# Altium integrated library ST Logic Switch.IntLib: 27 symbols
Pins are listed as number, name and electrical type; pins without a type are passive.

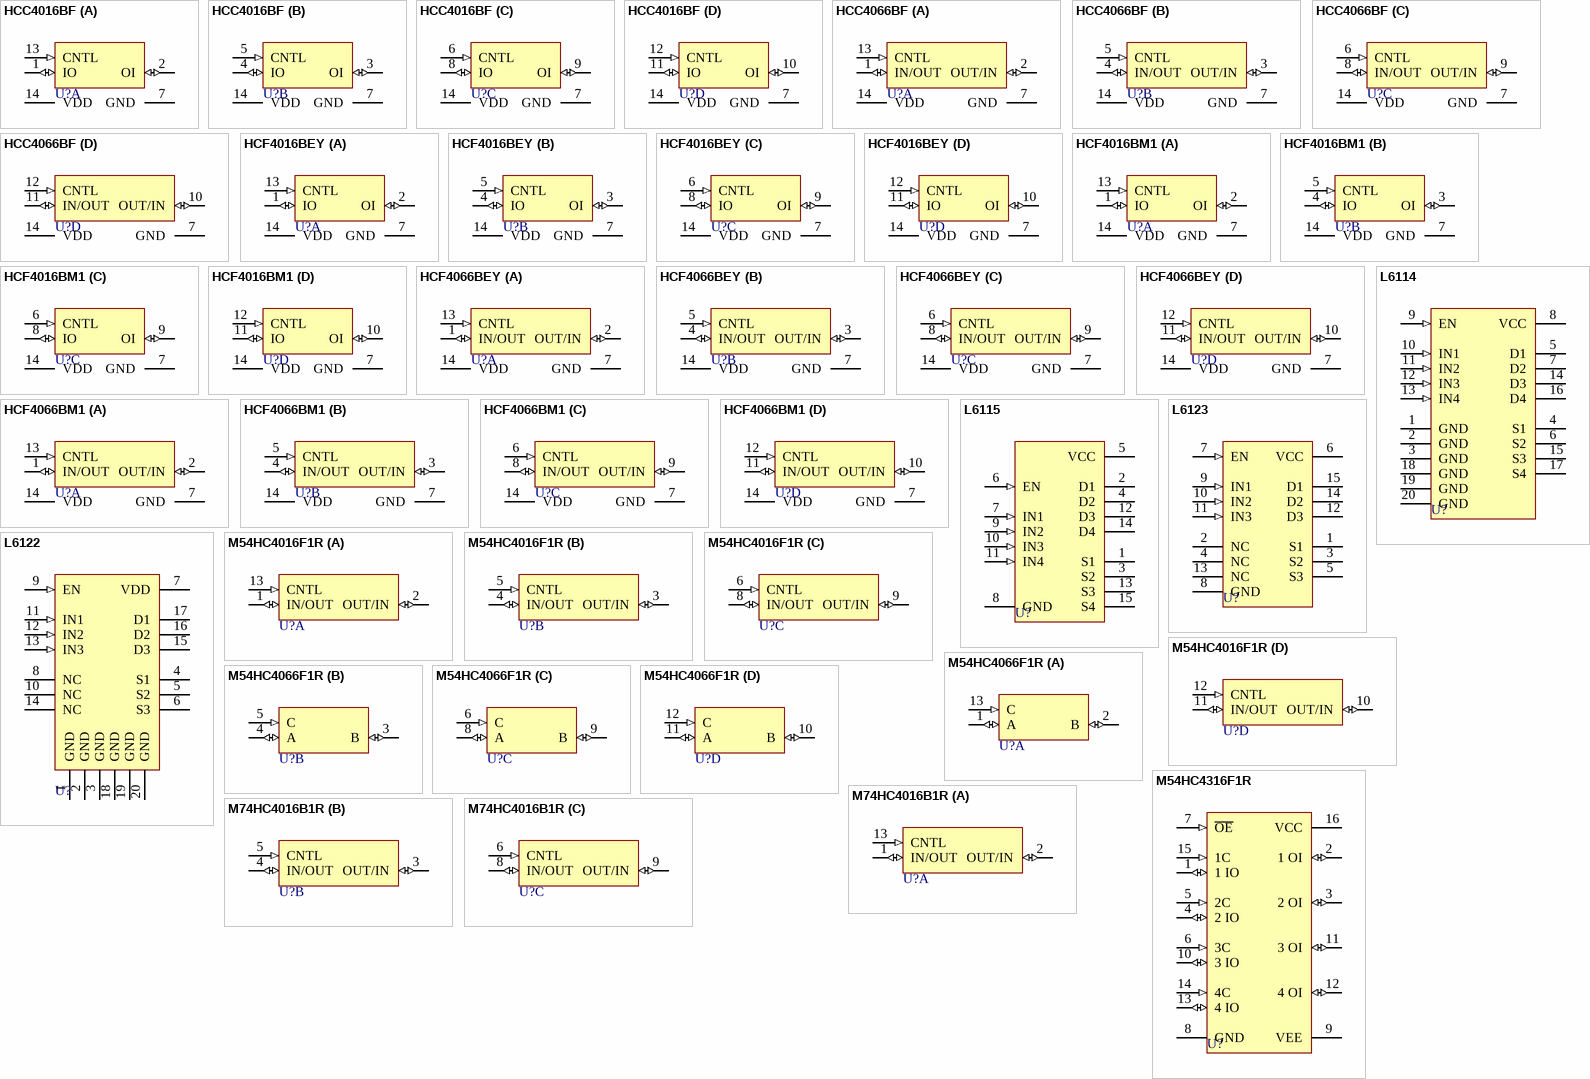
[diagram p0: symbols HCC4016BF to M74HC4016B1R]

## HCC4016BF
designator U?
Quad Bilateral Switch; Published: 8-Jun-2000; LatestRevisionDate: 04-Mar-2005; LatestRevisionNote: Stylized 3D Model Added.; DatasheetVersion: Jun-1989; PackageReference: CDIP14; Publisher: Altium Limited; PackageDescription: DIP; 14 Leads; Row Spacing 7.62 mm; Pitch 2.54 mm; ComponentLink1Description: Manufacturer Link; ComponentLink1URL: http://www.st.com/
footprint CDIP14 (DIP; 14 Leads; Row Spacing 7.62 mm; Pitch 2.54 mm)
3D model CDIP14 (DIP; 14 Leads; Row Spacing 7.62 mm; Pitch 2.54 mm)
pins on every part: 7 GND (power) hidden to GND, 14 VDD (power) hidden to VDD
part A pins: 1 IO (io), 2 OI (io), 13 CNTL (in)
part B pins: 3 OI (io), 4 IO (io), 5 CNTL (in)
part C pins: 6 CNTL (in), 8 IO (io), 9 OI (io)
part D pins: 10 OI (io), 11 IO (io), 12 CNTL (in)

## HCC4066BF
designator U?
Quad Bilateral Switch For Transmission or Multiplexing of Analog or Digital Signals; Published: 8-Jun-2000; LatestRevisionDate: 04-Mar-2005; LatestRevisionNote: Stylized 3D Model Added.; DatasheetVersion: Jun-1989; PackageReference: CDIP14; Publisher: Altium Limited; PackageDescription: DIP; 14 Leads; Row Spacing 7.62 mm; Pitch 2.54 mm; ComponentLink1Description: Manufacturer Link; ComponentLink1URL: http://www.st.com/
footprint CDIP14 (DIP; 14 Leads; Row Spacing 7.62 mm; Pitch 2.54 mm)
3D model CDIP14 (DIP; 14 Leads; Row Spacing 7.62 mm; Pitch 2.54 mm)
pins on every part: 7 GND (power) hidden to GND, 14 VDD (power) hidden to VDD
part A pins: 1 IN/OUT (io), 2 OUT/IN (io), 13 CNTL (in)
part B pins: 3 OUT/IN (io), 4 IN/OUT (io), 5 CNTL (in)
part C pins: 6 CNTL (in), 8 IN/OUT (io), 9 OUT/IN (io)
part D pins: 10 OUT/IN (io), 11 IN/OUT (io), 12 CNTL (in)

## HCF4016BEY
designator U?
Quad Bilateral Switch; Published: 8-Jun-2000; LatestRevisionDate: 04-Mar-2005; LatestRevisionNote: Stylized 3D Model Added.; DatasheetVersion: Jun-1989; PackageVersion: Jan-1997; PackageReference: DIP14; Publisher: Altium Limited; PackageDescription: DIP; 14 Leads; Row Spacing 7.62 mm; Pitch 2.54 mm; ComponentLink1Description: Manufacturer Link; ComponentLink1URL: http://www.st.com/; ComponentLink2Description: Datasheet; ComponentLink2URL: http://www.st.com/stonline/products/literature/ds/2027/hcf4016.pdf
footprint DIP14 (DIP; 14 Leads; Row Spacing 7.62 mm; Pitch 2.54 mm)
3D model CDIP14 (DIP; 14 Leads; Row Spacing 7.62 mm; Pitch 2.54 mm)
pins on every part: 7 GND (power) hidden to GND, 14 VDD (power) hidden to VDD
part A pins: 1 IO (io), 2 OI (io), 13 CNTL (in)
part B pins: 3 OI (io), 4 IO (io), 5 CNTL (in)
part C pins: 6 CNTL (in), 8 IO (io), 9 OI (io)
part D pins: 10 OI (io), 11 IO (io), 12 CNTL (in)

## HCF4016BM1
designator U?
Quad Bilateral Switch; Published: 8-Jun-2000; LatestRevisionDate: 13-Apr-2006; LatestRevisionNote: IPC-7351 Footprint Added.; DatasheetVersion: Jun-1989; PackageVersion: Sep-1998; PackageReference: SO14; Publisher: Altium Limited; PackageDescription: 14-Pin Small Outline Integrated Circuit 1.27 mm Pitch; Code_IPC: SOIC127P600-14; ComponentLink1Description: Manufacturer Link; ComponentLink1URL: http://www.st.com/; ComponentLink2Description: Datasheet; ComponentLink2URL: http://www.st.com/stonline/products/literature/ds/2027/hcf4016.pdf
footprint SO14_N (SOIC, 14-Leads, Body 8.7x3.9mm, Pitch 1.27mm, IPC Medium Density)
footprint SO14_L (SOIC, 14-Leads, Body 8.7x3.9mm, Pitch 1.27mm, IPC High Density)
footprint SO14_M (SOIC, 14-Leads, Body 8.7x3.9mm, Pitch 1.27mm, IPC Low Density)
3D model SO14 (14-Pin Small Outline Integrated Circuit 1.27 mm Pitch)
pins on every part: 7 GND (power) hidden to GND, 14 VDD (power) hidden to VDD
part A pins: 1 IO (io), 2 OI (io), 13 CNTL (in)
part B pins: 3 OI (io), 4 IO (io), 5 CNTL (in)
part C pins: 6 CNTL (in), 8 IO (io), 9 OI (io)
part D pins: 10 OI (io), 11 IO (io), 12 CNTL (in)

## HCF4066BEY
designator U?
Quad Bilateral Switch For Transmission or Multiplexing of Analog or Digital Signals; Published: 8-Jun-2000; LatestRevisionDate: 04-Mar-2005; LatestRevisionNote: Stylized 3D Model Added.; DatasheetVersion: Jun-1989; PackageVersion: Jan-1997; PackageReference: DIP14; Publisher: Altium Limited; PackageDescription: DIP; 14 Leads; Row Spacing 7.62 mm; Pitch 2.54 mm; ComponentLink1Description: Manufacturer Link; ComponentLink1URL: http://www.st.com/; ComponentLink2Description: Datasheet; ComponentLink2URL: http://www.st.com/stonline/products/literature/ds/2057/hcf4066.pdf
footprint DIP14 (DIP; 14 Leads; Row Spacing 7.62 mm; Pitch 2.54 mm)
3D model CDIP14 (DIP; 14 Leads; Row Spacing 7.62 mm; Pitch 2.54 mm)
pins on every part: 7 GND (power) hidden to GND, 14 VDD (power) hidden to VDD
part A pins: 1 IN/OUT (io), 2 OUT/IN (io), 13 CNTL (in)
part B pins: 3 OUT/IN (io), 4 IN/OUT (io), 5 CNTL (in)
part C pins: 6 CNTL (in), 8 IN/OUT (io), 9 OUT/IN (io)
part D pins: 10 OUT/IN (io), 11 IN/OUT (io), 12 CNTL (in)

## HCF4066BM1
designator U?
Quad Bilateral Switch For Transmission or Multiplexing of Analog or Digital Signals; Published: 8-Jun-2000; LatestRevisionDate: 13-Apr-2006; LatestRevisionNote: IPC-7351 Footprint Added.; DatasheetVersion: Jun-1989; PackageVersion: Sep-1998; PackageReference: SO14; Publisher: Altium Limited; PackageDescription: 14-Pin Small Outline Integrated Circuit 1.27 mm Pitch; Code_IPC: SOIC127P600-14; ComponentLink1Description: Manufacturer Link; ComponentLink1URL: http://www.st.com/; ComponentLink2Description: Datasheet; ComponentLink2URL: http://www.st.com/stonline/products/literature/ds/2057/hcf4066.pdf
footprint SO14_N (SOIC, 14-Leads, Body 8.7x3.9mm, Pitch 1.27mm, IPC Medium Density)
footprint SO14_L (SOIC, 14-Leads, Body 8.7x3.9mm, Pitch 1.27mm, IPC High Density)
footprint SO14_M (SOIC, 14-Leads, Body 8.7x3.9mm, Pitch 1.27mm, IPC Low Density)
3D model SO14 (14-Pin Small Outline Integrated Circuit 1.27 mm Pitch)
pins on every part: 7 GND (power) hidden to GND, 14 VDD (power) hidden to VDD
part A pins: 1 IN/OUT (io), 2 OUT/IN (io), 13 CNTL (in)
part B pins: 3 OUT/IN (io), 4 IN/OUT (io), 5 CNTL (in)
part C pins: 6 CNTL (in), 8 IN/OUT (io), 9 OUT/IN (io)
part D pins: 10 OUT/IN (io), 11 IN/OUT (io), 12 CNTL (in)

## L6114
designator U?
Quad 100V, DMOS Switch; Published: 29-Sep-2000; LatestRevisionDate: 04-Mar-2005; LatestRevisionNote: Stylized 3D Model Added.; DatasheetVersion: Apr-1993; PackageVersion: Mar-1995; PackageReference: PwrDIP20; Publisher: Altium Limited; PackageDescription: DIP; 20 Leads; Row Spacing 7.62 mm; Pitch 2.54 mm; ComponentLink1Description: Manufacturer Link; ComponentLink1URL: http://www.st.com/
footprint PwrDIP20 (DIP; 20 Leads; Row Spacing 7.62 mm; Pitch 2.54 mm)
3D model PwrDIP20 (DIP; 20 Leads; Row Spacing 7.62 mm; Pitch 2.54 mm)
pins: 1 GND (power), 2 GND (power), 3 GND (power), 4 S1, 5 D1, 6 S2, 7 D2, 8 VCC (power), 9 EN (in), 10 IN1 (in), 11 IN2 (in), 12 IN3 (in), 13 IN4 (in), 14 D3, 15 S3, 16 D4, 17 S4, 18 GND (power), 19 GND (power), 20 GND (power)

## L6115
designator U?
Quad 100V, DMOS Switch; Published: 29-Sep-2000; LatestRevisionDate: 17-Jul-2002; LatestRevisionNote: Re-released for DXP Platform.; DatasheetVersion: Apr-1993; PackageReference: MULTIWATT15; Publisher: Altium Limited; PackageDescription: TO, Thru-Hole, Vertical, Heatsink Mounted; 15 Bent Staggered Leads; Pitch 1.27 mm; ComponentLink1Description: Manufacturer Link; ComponentLink1URL: http://www.st.com/
footprint Multiwatt15 (TO, Thru-Hole, Vertical, Heatsink Mounted; 15 Bent Staggered Leads; Pitch 1.27 mm)
pins: 1 S1, 2 D1, 3 S2, 4 D2, 5 VCC (power), 6 EN (in), 7 IN1 (in), 8 GND (power), 9 IN2 (in), 10 IN3 (in), 11 IN4 (in), 12 D3, 13 S3, 14 D4, 15 S4

## L6122
designator U?
100V DMOS Switch; Published: 29-Sep-2000; LatestRevisionDate: 04-Mar-2005; LatestRevisionNote: Stylized 3D Model Added.; DatasheetVersion: Apr-1993; PackageVersion: Mar-1995; PackageReference: PwrDIP20; Publisher: Altium Limited; PackageDescription: DIP; 20 Leads; Row Spacing 7.62 mm; Pitch 2.54 mm; ComponentLink1Description: Manufacturer Link; ComponentLink1URL: http://www.st.com/
footprint PwrDIP20 (DIP; 20 Leads; Row Spacing 7.62 mm; Pitch 2.54 mm)
3D model PwrDIP20 (DIP; 20 Leads; Row Spacing 7.62 mm; Pitch 2.54 mm)
pins: 1 GND (power), 2 GND (power), 3 GND (power), 4 S1, 5 S2, 6 S3, 7 VDD (power), 8 NC, 9 EN (in), 10 NC, 11 IN1 (in), 12 IN2 (in), 13 IN3 (in), 14 NC, 15 D3, 16 D2, 17 D1, 18 GND (power), 19 GND (power), 20 GND (power)

## L6123
designator U?
100V DMOS Switch; Published: 29-Sep-2000; LatestRevisionDate: 17-Jul-2002; LatestRevisionNote: Re-released for DXP Platform.; DatasheetVersion: Apr-1993; PackageReference: MULTIWATT15; Publisher: Altium Limited; PackageDescription: TO, Thru-Hole, Vertical, Heatsink Mounted; 15 Bent Staggered Leads; Pitch 1.27 mm; ComponentLink1Description: Manufacturer Link; ComponentLink1URL: http://www.st.com/
footprint Multiwatt15 (TO, Thru-Hole, Vertical, Heatsink Mounted; 15 Bent Staggered Leads; Pitch 1.27 mm)
pins: 1 S1, 2 NC, 3 S2, 4 NC, 5 S3, 6 VCC (power), 7 EN (in), 8 GND (power), 9 IN1 (in), 10 IN2 (in), 11 IN3 (in), 12 D3, 13 NC, 14 D2, 15 D1

## M54HC4016F1R
designator U?
Quad Bilateral Switch; Published: 8-Jun-2000; LatestRevisionDate: 04-Mar-2005; LatestRevisionNote: Stylized 3D Model Added.; DatasheetVersion: Oct-1993; PackageReference: CDIP14; Publisher: Altium Limited; PackageDescription: DIP; 14 Leads; Row Spacing 7.62 mm; Pitch 2.54 mm; ComponentLink1Description: Manufacturer Link; ComponentLink1URL: http://www.st.com/
footprint CDIP14 (DIP; 14 Leads; Row Spacing 7.62 mm; Pitch 2.54 mm)
3D model CDIP14 (DIP; 14 Leads; Row Spacing 7.62 mm; Pitch 2.54 mm)
signal-integrity model M54HC4016F1R
pins on every part: 7 GND (power) hidden to GND, 14 VDD (power) hidden to VDD
part A pins: 1 IN/OUT (io), 2 OUT/IN (io), 13 CNTL (in)
part B pins: 3 OUT/IN (io), 4 IN/OUT (io), 5 CNTL (in)
part C pins: 6 CNTL (in), 8 IN/OUT (io), 9 OUT/IN (io)
part D pins: 10 OUT/IN (io), 11 IN/OUT (io), 12 CNTL (in)

## M54HC4066F1R
designator U?
Quad Bilateral Switch; Published: 8-Jun-2000; LatestRevisionDate: 04-Mar-2005; LatestRevisionNote: Stylized 3D Model Added.; DatasheetVersion: Oct-1993; PackageReference: CDIP14; Publisher: Altium Limited; PackageDescription: DIP; 14 Leads; Row Spacing 7.62 mm; Pitch 2.54 mm; ComponentLink1Description: Manufacturer Link; ComponentLink1URL: http://www.st.com/
footprint CDIP14 (DIP; 14 Leads; Row Spacing 7.62 mm; Pitch 2.54 mm)
3D model CDIP14 (DIP; 14 Leads; Row Spacing 7.62 mm; Pitch 2.54 mm)
signal-integrity model M54HC4066F1R
pins on every part: 7 GND (power) hidden to GND, 14 VDD (power) hidden to VDD
part A pins: 1 A (io), 2 B (io), 13 C (in)
part B pins: 3 B (io), 4 A (io), 5 C (in)
part C pins: 6 C (in), 8 A (io), 9 B (io)
part D pins: 10 B (io), 11 A (io), 12 C (in)

## M54HC4316F1R
designator U?
Quad Bilateral Switch; Published: 8-Jun-2000; LatestRevisionDate: 04-Mar-2005; LatestRevisionNote: Stylized 3D Model Added.; DatasheetVersion: Oct-1993; PackageVersion: Apr-1996; PackageReference: DIP16; Publisher: Altium Limited; PackageDescription: DIP; 16 Leads; Row Spacing 7.62 mm; Pitch 2.54 mm; ComponentLink1Description: Manufacturer Link; ComponentLink1URL: http://www.st.com/
footprint DIP16 (DIP; 16 Leads; Row Spacing 7.62 mm; Pitch 2.54 mm)
3D model DIP16 (DIP; 16 Leads; Row Spacing 7.62 mm; Pitch 2.54 mm)
signal-integrity model M54HC4316F1R
pins: 1 1 IO (io), 2 1 OI (io), 3 2 OI (io), 4 2 IO (io), 5 2C (in), 6 3C (in), 7 ~{OE} (in), 8 GND (power), 9 VEE (power), 10 3 IO (io), 11 3 OI (io), 12 4 OI (io), 13 4 IO (io), 14 4C (in), 15 1C (in), 16 VCC (power)

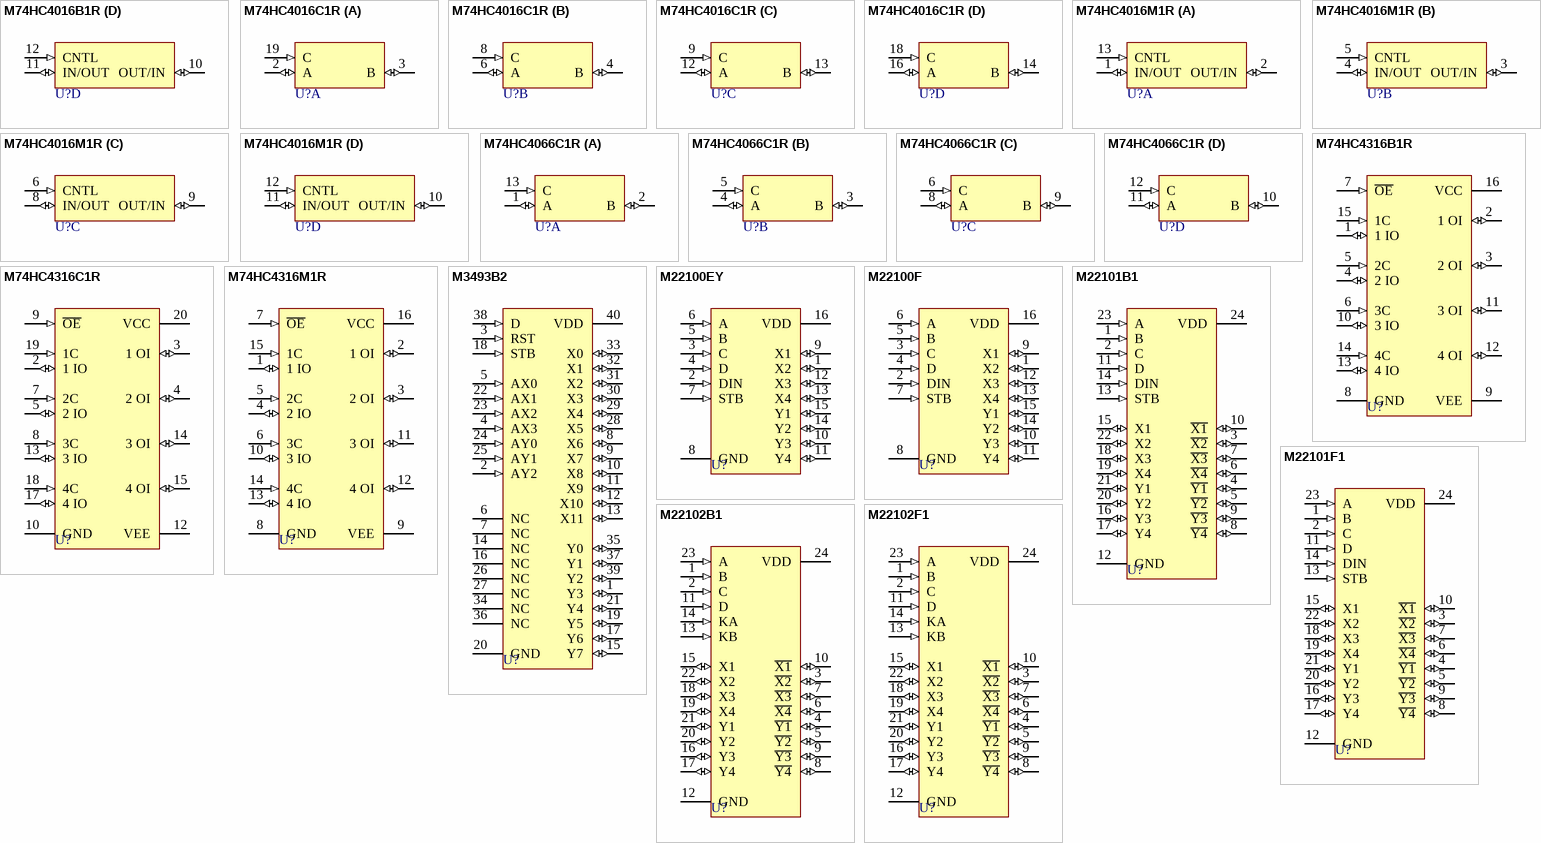
[diagram p1: symbols M74HC4016B1R to M22102F1]

## M74HC4016B1R
designator U?
Quad Bilateral Switch; Published: 8-Jun-2000; LatestRevisionDate: 04-Mar-2005; LatestRevisionNote: Stylized 3D Model Added.; DatasheetVersion: Oct-1993; PackageVersion: Jan-1997; PackageReference: DIP14; Publisher: Altium Limited; PackageDescription: DIP; 14 Leads; Row Spacing 7.62 mm; Pitch 2.54 mm; ComponentLink1Description: Manufacturer Link; ComponentLink1URL: http://www.st.com/; ComponentLink2Description: Datasheet; ComponentLink2URL: http://www.st.com/stonline/products/literature/ds/1959/m74hc4016.pdf
footprint DIP14 (DIP; 14 Leads; Row Spacing 7.62 mm; Pitch 2.54 mm)
3D model CDIP14 (DIP; 14 Leads; Row Spacing 7.62 mm; Pitch 2.54 mm)
signal-integrity model M74HC4016B1R
pins on every part: 7 GND (power) hidden to GND, 14 VDD (power) hidden to VDD
part A pins: 1 IN/OUT (io), 2 OUT/IN (io), 13 CNTL (in)
part B pins: 3 OUT/IN (io), 4 IN/OUT (io), 5 CNTL (in)
part C pins: 6 CNTL (in), 8 IN/OUT (io), 9 OUT/IN (io)
part D pins: 10 OUT/IN (io), 11 IN/OUT (io), 12 CNTL (in)

## M74HC4016C1R
designator U?
Quad Bilateral Switch; Note: Pins 1, 5, 7, 11, 15 and 17 are not connected and not drawn.; Published: 8-Jun-2000; LatestRevisionDate: 13-Apr-2006; LatestRevisionNote: IPC-7351 Footprint Added.; DatasheetVersion: Oct-1993; PackageVersion: Mar-1992; PackageReference: PLCC20; Publisher: Altium Limited; PackageDescription: 20-Pin Leaded Chip Carrier 1.27 mm Pitch; ComponentLink1Description: Manufacturer Link; ComponentLink1URL: http://www.st.com/
footprint PLCC20_N (Leaded Chip Carrier, 20-Leads, Body 9x9mm, Pitch 1.27mm, IPC Medium Density)
footprint PLCC20_L (Leaded Chip Carrier, 20-Leads, Body 9x9mm, Pitch 1.27mm, IPC High Density)
footprint PLCC20_M (Leaded Chip Carrier, 20-Leads, Body 9x9mm, Pitch 1.27mm, IPC Low Density)
3D model M74HC4016-PLCC20 (20-Pin Leaded Chip Carrier 1.27 mm Pitch)
signal-integrity model M74HC4016C1R
pins on every part: 10 GND (power) hidden to GND, 20 VDD (power) hidden to VDD
part A pins: 2 A (io), 3 B (io), 19 C (in)
part B pins: 4 B (io), 6 A (io), 8 C (in)
part C pins: 9 C (in), 12 A (io), 13 B (io)
part D pins: 14 B (io), 16 A (io), 18 C (in)

## M74HC4016M1R
designator U?
Quad Bilateral Switch; Published: 8-Jun-2000; LatestRevisionDate: 13-Apr-2006; LatestRevisionNote: IPC-7351 Footprint Added.; DatasheetVersion: Oct-1993; PackageVersion: Sep-1998; PackageReference: SO14; Publisher: Altium Limited; PackageDescription: 14-Pin Small Outline Integrated Circuit 1.27 mm Pitch; Code_IPC: SOIC127P600-14; ComponentLink1Description: Manufacturer Link; ComponentLink1URL: http://www.st.com/; ComponentLink2Description: Datasheet; ComponentLink2URL: http://www.st.com/stonline/products/literature/ds/1959/m74hc4016.pdf
footprint SO14_N (SOIC, 14-Leads, Body 8.7x3.9mm, Pitch 1.27mm, IPC Medium Density)
footprint SO14_L (SOIC, 14-Leads, Body 8.7x3.9mm, Pitch 1.27mm, IPC High Density)
footprint SO14_M (SOIC, 14-Leads, Body 8.7x3.9mm, Pitch 1.27mm, IPC Low Density)
3D model SO14 (14-Pin Small Outline Integrated Circuit 1.27 mm Pitch)
signal-integrity model M74HC4016M1R
pins on every part: 7 GND (power) hidden to GND, 14 VDD (power) hidden to VDD
part A pins: 1 IN/OUT (io), 2 OUT/IN (io), 13 CNTL (in)
part B pins: 3 OUT/IN (io), 4 IN/OUT (io), 5 CNTL (in)
part C pins: 6 CNTL (in), 8 IN/OUT (io), 9 OUT/IN (io)
part D pins: 10 OUT/IN (io), 11 IN/OUT (io), 12 CNTL (in)

## M74HC4066C1R
designator U?
Quad Bilateral Switch; Published: 8-Jun-2000; LatestRevisionDate: 13-Apr-2006; LatestRevisionNote: IPC-7351 Footprint Added.; DatasheetVersion: Oct-1993; PackageVersion: Mar-1992; PackageReference: PLCC20; Publisher: Altium Limited; PackageDescription: 20-Pin Leaded Chip Carrier 1.27 mm Pitch; ComponentLink1Description: Manufacturer Link; ComponentLink1URL: http://www.st.com/
footprint PLCC20_N (Leaded Chip Carrier, 20-Leads, Body 9x9mm, Pitch 1.27mm, IPC Medium Density)
footprint PLCC20_L (Leaded Chip Carrier, 20-Leads, Body 9x9mm, Pitch 1.27mm, IPC High Density)
footprint PLCC20_M (Leaded Chip Carrier, 20-Leads, Body 9x9mm, Pitch 1.27mm, IPC Low Density)
3D model M74HC4066-PLCC20 (20-Pin Leaded Chip Carrier 1.27 mm Pitch)
signal-integrity model M74HC4066C1R
pins on every part: 7 GND (power) hidden to GND, 14 VDD (power) hidden to VDD
part A pins: 1 A (io), 2 B (io), 13 C (in)
part B pins: 3 B (io), 4 A (io), 5 C (in)
part C pins: 6 C (in), 8 A (io), 9 B (io)
part D pins: 10 B (io), 11 A (io), 12 C (in)

## M74HC4316B1R
designator U?
Quad Bilateral Switch; Published: 8-Jun-2000; LatestRevisionDate: 04-Mar-2005; LatestRevisionNote: Stylized 3D Model Added.; DatasheetVersion: Oct-1993; PackageVersion: Apr-1996; PackageReference: DIP16; Publisher: Altium Limited; PackageDescription: DIP; 16 Leads; Row Spacing 7.62 mm; Pitch 2.54 mm; ComponentLink1Description: Manufacturer Link; ComponentLink1URL: http://www.st.com/; ComponentLink2Description: Datasheet; ComponentLink2URL: http://www.st.com/stonline/products/literature/ds/1975/m74hc4316.pdf
footprint DIP16 (DIP; 16 Leads; Row Spacing 7.62 mm; Pitch 2.54 mm)
3D model DIP16 (DIP; 16 Leads; Row Spacing 7.62 mm; Pitch 2.54 mm)
signal-integrity model M74HC4316B1R
pins: 1 1 IO (io), 2 1 OI (io), 3 2 OI (io), 4 2 IO (io), 5 2C (in), 6 3C (in), 7 ~{OE} (in), 8 GND (power), 9 VEE (power), 10 3 IO (io), 11 3 OI (io), 12 4 OI (io), 13 4 IO (io), 14 4C (in), 15 1C (in), 16 VCC (power)

## M74HC4316C1R
designator U?
Quad Bilateral Switch; Note: Pins 1, 6, 11 and 16 are not connected and not drawn.; Published: 8-Jun-2000; LatestRevisionDate: 13-Apr-2006; LatestRevisionNote: IPC-7351 Footprint Added.; DatasheetVersion: Oct-1993; PackageVersion: Mar-1992; PackageReference: PLCC20; Publisher: Altium Limited; PackageDescription: 20-Pin Leaded Chip Carrier 1.27 mm Pitch; ComponentLink1Description: Manufacturer Link; ComponentLink1URL: http://www.st.com/
footprint PLCC20_N (Leaded Chip Carrier, 20-Leads, Body 9x9mm, Pitch 1.27mm, IPC Medium Density)
footprint PLCC20_L (Leaded Chip Carrier, 20-Leads, Body 9x9mm, Pitch 1.27mm, IPC High Density)
footprint PLCC20_M (Leaded Chip Carrier, 20-Leads, Body 9x9mm, Pitch 1.27mm, IPC Low Density)
3D model M74HC4316-PLCC20 (20-Pin Leaded Chip Carrier 1.27 mm Pitch)
signal-integrity model M74HC4316C1R
pins: 2 1 IO (io), 3 1 OI (io), 4 2 OI (io), 5 2 IO (io), 7 2C (in), 8 3C (in), 9 ~{OE} (in), 10 GND (power), 12 VEE (power), 13 3 IO (io), 14 3 OI (io), 15 4 OI (io), 17 4 IO (io), 18 4C (in), 19 1C (in), 20 VCC (power)

## M74HC4316M1R
designator U?
Quad Bilateral Switch; Published: 8-Jun-2000; LatestRevisionDate: 13-Apr-2006; LatestRevisionNote: IPC-7351 Footprint Added.; DatasheetVersion: Oct-1993; PackageVersion: May-1998; PackageReference: SO16; Publisher: Altium Limited; PackageDescription: 16-Pin Small Outline Integrated Circuit 1.27 mm Pitch; Code_IPC: SOIC127P600-16; ComponentLink1Description: Manufacturer Link; ComponentLink1URL: http://www.st.com/; ComponentLink2Description: Datasheet; ComponentLink2URL: http://www.st.com/stonline/products/literature/ds/1975/m74hc4316.pdf
footprint SO16_N (SOIC, 16-Leads, Body 9.9x3.9mm, Pitch 1.27mm, IPC Medium Density)
footprint SO16_L (SOIC, 16-Leads, Body 9.9x3.9mm, Pitch 1.27mm, IPC High Density)
footprint SO16_M (SOIC, 16-Leads, Body 9.9x3.9mm, Pitch 1.27mm, IPC Low Density)
3D model SO16 (16-Pin Small Outline Integrated Circuit 1.27 mm Pitch)
signal-integrity model M74HC4316M1R
pins: 1 1 IO (io), 2 1 OI (io), 3 2 OI (io), 4 2 IO (io), 5 2C (in), 6 3C (in), 7 ~{OE} (in), 8 GND (power), 9 VEE (power), 10 3 IO (io), 11 3 OI (io), 12 4 OI (io), 13 4 IO (io), 14 4C (in), 15 1C (in), 16 VCC (power)

## M3493B2
designator U?
CMOS 12 X 8 Crosspoint With Control Memory; Published: 29-Sep-2000; LatestRevisionDate: 04-Mar-2005; LatestRevisionNote: Stylized 3D Model Added.; DatasheetVersion: Jun-1998; PackageVersion: Jun-1998; PackageReference: PDIP40; Publisher: Altium Limited; PackageDescription: DIP, Plastic; 40 Leads; Row Spacing 15.24 mm; Pitch 2.54 mm; ComponentLink1Description: Manufacturer Link; ComponentLink1URL: http://www.st.com/
footprint PDIP40 (DIP, Plastic; 40 Leads; Row Spacing 15.24 mm; Pitch 2.54 mm)
3D model PDIP40 (DIP, Plastic; 40 Leads; Row Spacing 15.24 mm; Pitch 2.54 mm)
pins: 1 Y3 (io), 2 AY2 (in), 3 RST (in), 4 AX3 (in), 5 AX0 (in), 6 NC, 7 NC, 8 X6 (io), 9 X7 (io), 10 X8 (io), 11 X9 (io), 12 X10 (io), 13 X11 (io), 14 NC, 15 Y7 (io), 16 NC, 17 Y6 (io), 18 STB (in), 19 Y5 (io), 20 GND (power), 21 Y4 (io), 22 AX1 (in), 23 AX2 (in), 24 AY0 (in), 25 AY1 (in), 26 NC, 27 NC, 28 X5 (io), 29 X4 (io), 30 X3 (io), 31 X2 (io), 32 X1 (io), 33 X0 (io), 34 NC, 35 Y0 (io), 36 NC (power), 37 Y1 (io), 38 D (in), 39 Y2 (io), 40 VDD (power)

## M22100EY
designator U?
4 X 4 Crosspoint Switch With Control Memory; Published: 29-Sep-2000; LatestRevisionDate: 04-Mar-2005; LatestRevisionNote: Stylized 3D Model Added.; DatasheetVersion: Sep-1988; PackageVersion: Apr-1996; PackageReference: DIP16; Publisher: Altium Limited; PackageDescription: DIP; 16 Leads; Row Spacing 7.62 mm; Pitch 2.54 mm; ComponentLink1Description: Manufacturer Link; ComponentLink1URL: http://www.st.com/
footprint DIP16 (DIP; 16 Leads; Row Spacing 7.62 mm; Pitch 2.54 mm)
3D model DIP16 (DIP; 16 Leads; Row Spacing 7.62 mm; Pitch 2.54 mm)
pins: 1 X2 (io), 2 DIN (in), 3 C (in), 4 D (in), 5 B (in), 6 A (in), 7 STB (in), 8 GND (power), 9 X1 (io), 10 Y3 (io), 11 Y4 (io), 12 X3 (io), 13 X4 (io), 14 Y2 (io), 15 Y1 (io), 16 VDD (power)

## M22100F
designator U?
4 X 4 Crosspoint Switch With Control Memory; Published: 29-Sep-2000; LatestRevisionDate: 04-Mar-2005; LatestRevisionNote: Stylized 3D Model Added.; DatasheetVersion: Sep-1988; PackageVersion: Apr-1996; PackageReference: DIP16; Publisher: Altium Limited; PackageDescription: DIP; 16 Leads; Row Spacing 7.62 mm; Pitch 2.54 mm; ComponentLink1Description: Manufacturer Link; ComponentLink1URL: http://www.st.com/
footprint DIP16 (DIP; 16 Leads; Row Spacing 7.62 mm; Pitch 2.54 mm)
3D model DIP16 (DIP; 16 Leads; Row Spacing 7.62 mm; Pitch 2.54 mm)
pins: 1 X2 (io), 2 DIN (in), 3 C (in), 4 D (in), 5 B (in), 6 A (in), 7 STB (in), 8 GND (power), 9 X1 (io), 10 Y3 (io), 11 Y4 (io), 12 X3 (io), 13 X4 (io), 14 Y2 (io), 15 Y1 (io), 16 VDD (power)

## M22101B1
designator U?
4 X 4 X 2 Crosspoint Switch With Control Memory; Published: 29-Sep-2000; LatestRevisionDate: 04-Mar-2005; LatestRevisionNote: Stylized 3D Model Added.; DatasheetVersion: Sep-1988; PackageVersion: Jan-1995; PackageReference: PDIP24; Publisher: Altium Limited; PackageDescription: DIP; 24 Leads; Row Spacing 15.24 mm; Pitch 2.54 mm; ComponentLink1Description: Manufacturer Link; ComponentLink1URL: http://www.st.com/
footprint PDIP24 (DIP; 24 Leads; Row Spacing 15.24 mm; Pitch 2.54 mm)
3D model CDIP24 (DIP; 24 Leads; Row Spacing 15.24 mm; Pitch 2.54 mm)
pins: 1 B (in), 2 C (in), 3 ~{X2} (io), 4 ~{Y1} (io), 5 ~{Y2} (io), 6 ~{X4} (io), 7 ~{X3} (io), 8 ~{Y4} (io), 9 ~{Y3} (io), 10 ~{X1} (io), 11 D (in), 12 GND (power), 13 STB (in), 14 DIN (in), 15 X1 (io), 16 Y3 (io), 17 Y4 (io), 18 X3 (io), 19 X4 (io), 20 Y2 (io), 21 Y1 (io), 22 X2 (io), 23 A (in), 24 VDD (power)

## M22101F1
designator U?
4 X 4 X 2 Crosspoint Switch With Control Memory; Published: 29-Sep-2000; LatestRevisionDate: 04-Mar-2005; LatestRevisionNote: Stylized 3D Model Added.; DatasheetVersion: Sep-1988; PackageVersion: Sep-1988; PackageReference: CDIP24; Publisher: Altium Limited; PackageDescription: DIP; 24 Leads; Row Spacing 15.24 mm; Pitch 2.54 mm; ComponentLink1Description: Manufacturer Link; ComponentLink1URL: http://www.st.com/
footprint CDIP24 (DIP; 24 Leads; Row Spacing 15.24 mm; Pitch 2.54 mm)
3D model CDIP24 (DIP; 24 Leads; Row Spacing 15.24 mm; Pitch 2.54 mm)
pins: 1 B (in), 2 C (in), 3 ~{X2} (io), 4 ~{Y1} (io), 5 ~{Y2} (io), 6 ~{X4} (io), 7 ~{X3} (io), 8 ~{Y4} (io), 9 ~{Y3} (io), 10 ~{X1} (io), 11 D (in), 12 GND (power), 13 STB (in), 14 DIN (in), 15 X1 (io), 16 Y3 (io), 17 Y4 (io), 18 X3 (io), 19 X4 (io), 20 Y2 (io), 21 Y1 (io), 22 X2 (io), 23 A (in), 24 VDD (power)

## M22102B1
designator U?
4 X 4 X 2 Crosspoint Switch With Control Memory; Published: 29-Sep-2000; LatestRevisionDate: 04-Mar-2005; LatestRevisionNote: Stylized 3D Model Added.; DatasheetVersion: Sep-1988; PackageVersion: Jan-1995; PackageReference: PDIP24; Publisher: Altium Limited; PackageDescription: DIP; 24 Leads; Row Spacing 15.24 mm; Pitch 2.54 mm; ComponentLink1Description: Manufacturer Link; ComponentLink1URL: http://www.st.com/
footprint PDIP24 (DIP; 24 Leads; Row Spacing 15.24 mm; Pitch 2.54 mm)
3D model CDIP24 (DIP; 24 Leads; Row Spacing 15.24 mm; Pitch 2.54 mm)
pins: 1 B (in), 2 C (in), 3 ~{X2} (io), 4 ~{Y1} (io), 5 ~{Y2} (io), 6 ~{X4} (io), 7 ~{X3} (io), 8 ~{Y4} (io), 9 ~{Y3} (io), 10 ~{X1} (io), 11 D (in), 12 GND (power), 13 KB (in), 14 KA (in), 15 X1 (io), 16 Y3 (io), 17 Y4 (io), 18 X3 (io), 19 X4 (io), 20 Y2 (io), 21 Y1 (io), 22 X2 (io), 23 A (in), 24 VDD (power)

## M22102F1
designator U?
4 X 4 X 2 Crosspoint Switch With Control Memory; Published: 29-Sep-2000; LatestRevisionDate: 04-Mar-2005; LatestRevisionNote: Stylized 3D Model Added.; DatasheetVersion: Sep-1988; PackageVersion: Sep-1988; PackageReference: CDIP24; Publisher: Altium Limited; PackageDescription: DIP; 24 Leads; Row Spacing 15.24 mm; Pitch 2.54 mm; ComponentLink1Description: Manufacturer Link; ComponentLink1URL: http://www.st.com/
footprint CDIP24 (DIP; 24 Leads; Row Spacing 15.24 mm; Pitch 2.54 mm)
3D model CDIP24 (DIP; 24 Leads; Row Spacing 15.24 mm; Pitch 2.54 mm)
pins: 1 B (in), 2 C (in), 3 ~{X2} (io), 4 ~{Y1} (io), 5 ~{Y2} (io), 6 ~{X4} (io), 7 ~{X3} (io), 8 ~{Y4} (io), 9 ~{Y3} (io), 10 ~{X1} (io), 11 D (in), 12 GND (power), 13 KB (in), 14 KA (in), 15 X1 (io), 16 Y3 (io), 17 Y4 (io), 18 X3 (io), 19 X4 (io), 20 Y2 (io), 21 Y1 (io), 22 X2 (io), 23 A (in), 24 VDD (power)